# Altium footprint library PCB - CONNECTOR - MOLEX - MOLEX 5013310407.PcbLib: 1 footprints
Each footprint in its own frame and in the unit in brackets; x right, y up, seen from the top. Pads: shape width x height; smd on the part's side, far side on the other; paste and mask are expansions set on the pad; w line width, h text height; cw(c..) or ccw(c..) is an arc to the next point about the centre after c.
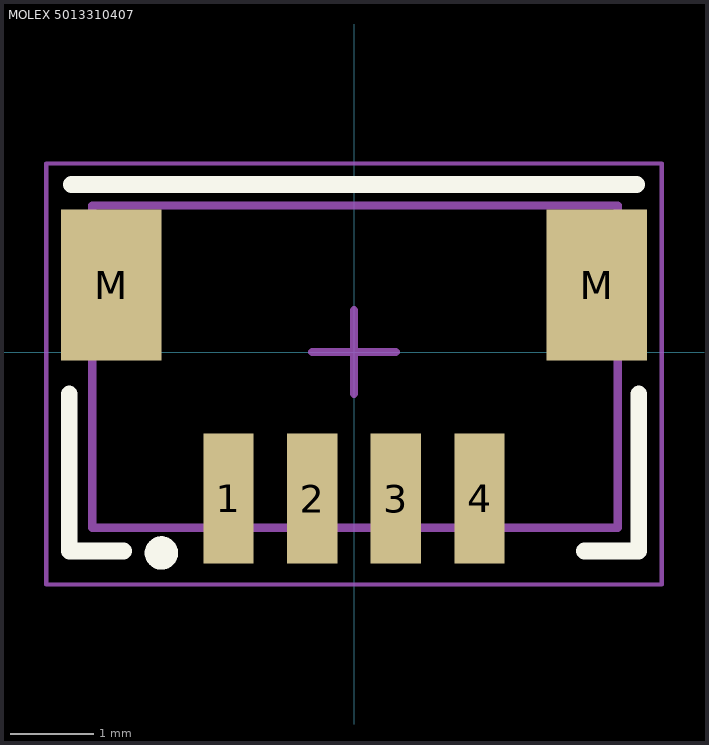
[diagram p0: the footprint, top view; thin cyan lines are the x and y axes]

## MOLEX 5013310407 [mm] "Connector Header Surface Mount, Verticle 4 position, 1.00mm Pitch, 3.50x4.00 mm Body"
height 5.41
pads (6):
  rect 0.6x1.55 smd: 1(-1.5,-1.75) 2(-0.5,-1.75) 3(0.5,-1.75) 4(1.5,-1.75)
  rect 1.2x1.8 smd mask+0.1: M(-2.9,0.8) M(2.9,0.8)
Top Overlay:
  circle w0.2: c-2.3,-2.4 r0.1
  lines w0.2: -3.4,-2.375 -3.4,-0.5 ; -3.375,-2.375 -2.75,-2.375 ; -3.375,2 3.375,2 ; 2.75,-2.375 3.375,-2.375 3.4,-2.375 3.4,-0.5
Mechanical 13:
  lines w0.1: -3.125,-2.1 3.15,-2.1 3.15,1.75 -3.125,1.75 -3.125,-2.1
Mechanical 15 (Mech15):
  lines w0.05: -3.675,-2.775 3.675,-2.775 3.675,2.25 -3.675,2.25 -3.675,-2.775
  lines w0.1: -0.5,0 0,0 ; 0,-0.5 0,0 ; 0,0.5 0,0 ; 0.5,0 0,0
3D body "Molex - 5013310407.stp": height 5.59, standoff 0.04, extent -3.12,-2.11 3.12,1.74